# EAGLE library part SN74*2G241 (library bt_logic)
Dual line drivers with 3-state outputs.
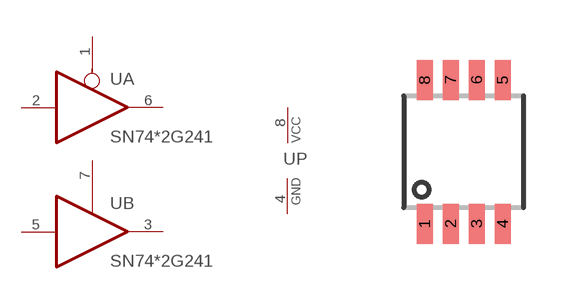
[diagram p1: symbol with the pads of SSOP08; footprint SSOP08]

Designator prefix U; gates A=74125 P=PWRN B=74126

## SN74LVC2G241DCT  [SSOP08]
1  A:OE  in
2  A:I  in
3  B:O  out
4  P:GND  pwr
5  B:I  in
6  A:O  hiz
7  B:OE  in
8  P:VCC  pwr

## Footprint SSOP08 (pad centres in mm)
SMT SSOP 08
smd 0.4 x 1: 1 -0.975,-1.8; 2 -0.325,-1.8; 3 0.325,-1.8; 4 0.975,-1.8; 5 0.975,1.8; 6 0.325,1.8; 7 -0.325,1.8; 8 -0.975,1.8